# Altium footprint library Коммут элементы-mm.PcbLib: 50 footprints (part 2 of 4)
Each footprint in its own frame and in the unit in brackets; x right, y up, seen from the top. Pads: shape width x height; smd on the part's side, far side on the other; paste and mask are expansions set on the pad; w line width, h text height; cw(c..) or ccw(c..) is an arc to the next point about the centre after c.
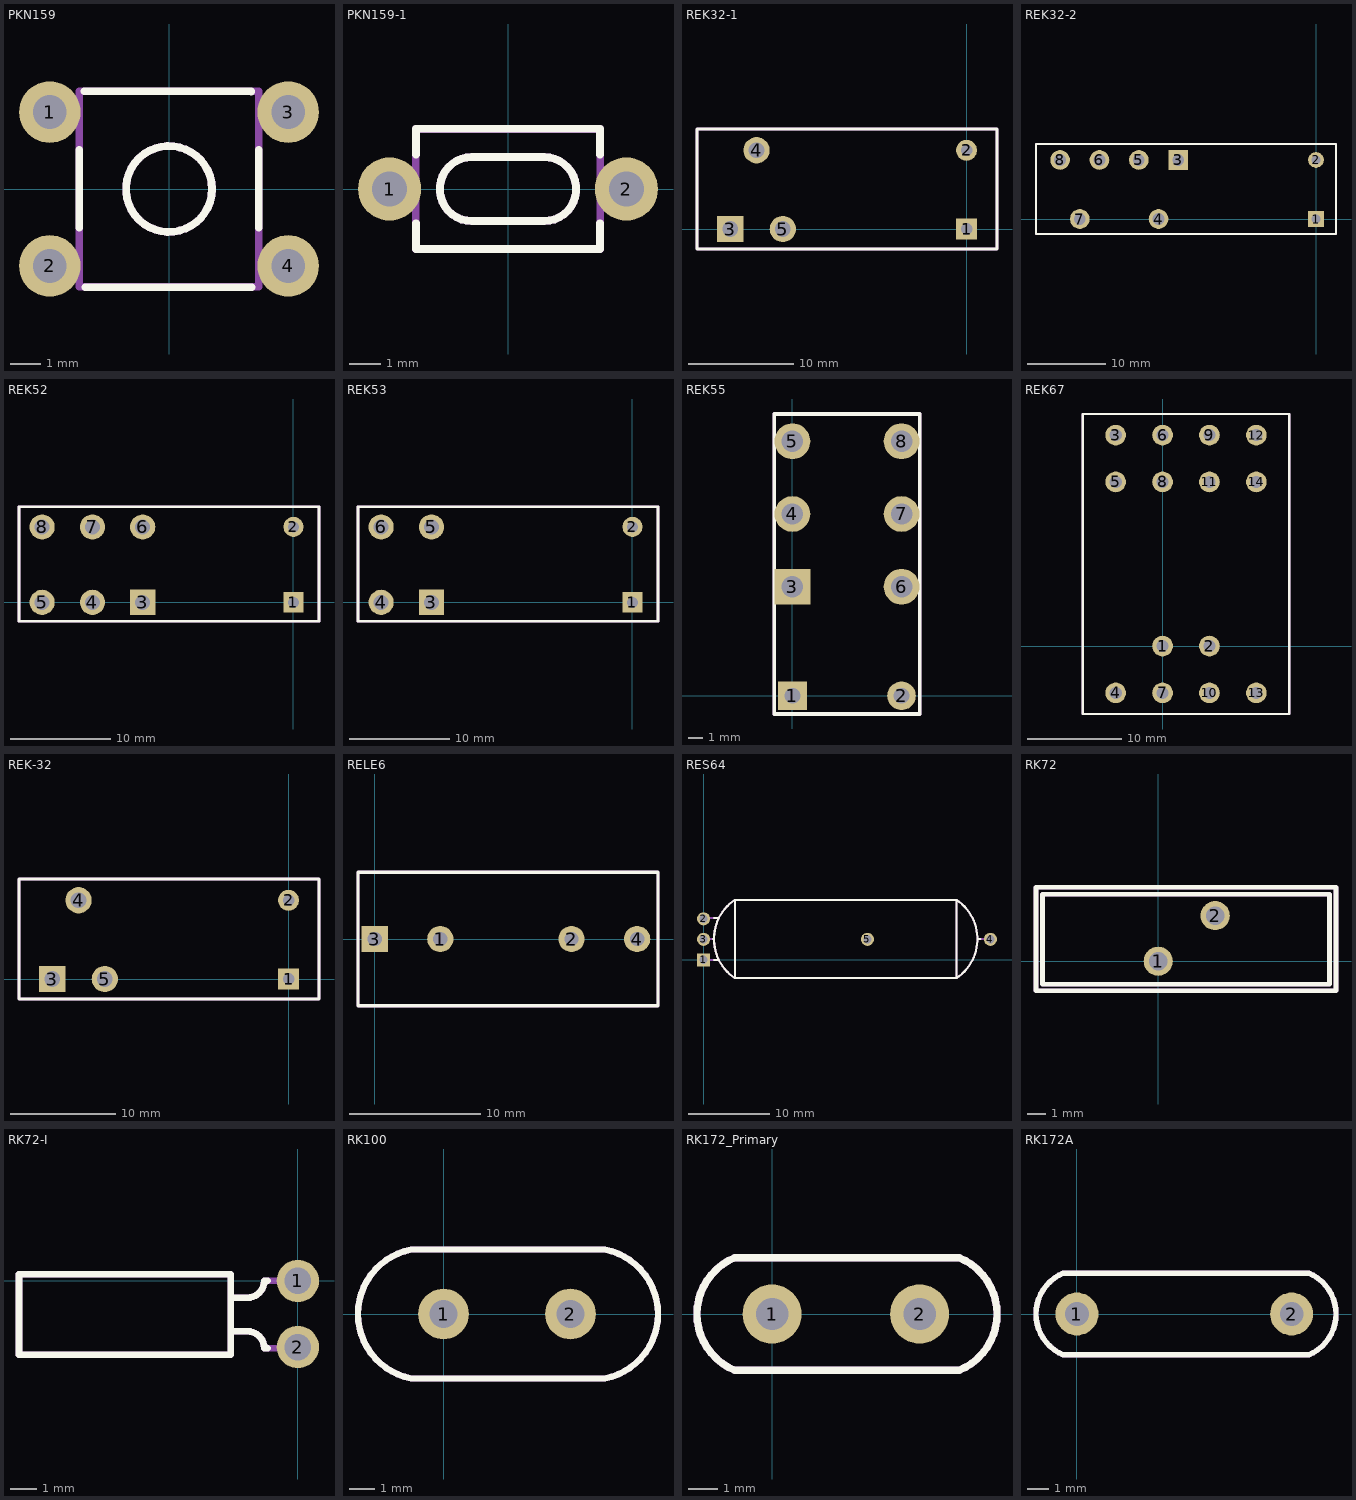
[diagram p1: the footprints below, top view; thin cyan lines are the x and y axes]

## PKN159 [mm]
pads (4):
  round 2 hole 1.1: 1(-3.875,2.5) 2(-3.875,-2.5) 3(3.875,2.5) 4(3.875,-2.5)
Top Overlay:
  circle w0.25: c0,0 r1.397
  lines w0.25: -2.92,-1.25 -2.92,1.276 ; -2.746,3.178 2.67,3.178 2.67,3.164 ; -2.724,-3.196 2.692,-3.196 ; 2.917,-1.25 2.917,1.276
Mechanical 1:
  circle w0.25: c0,0 r1.397
  lines w0.25: -2.921,-3.175 2.921,-3.175 2.921,3.175 -2.921,3.175 -2.921,-3.175

## PKN159-1 [mm]
pads (2):
  round 2 hole 1.1: 1(-3.75,0) 2(3.75,0)
Top Overlay:
  lines w0.25: -2.916,-1.084 -2.916,-1.902 2.27,-1.902 2.916,-1.902 2.916,-1.084 ; -2.916,1.09 -2.916,1.908 -2.27,1.908 2.916,1.908 2.916,1.09 ; -1.143,-1.016 cw(c-1.143,0) -1.143,1.016 1.143,1.016 cw(c1.143,0) 1.143,-1.016 -1.143,-1.016
Mechanical 1:
  lines w0.25: -2.921,-1.905 2.921,-1.905 2.921,1.905 -2.921,1.905 -2.921,-1.905 ; -1.143,-1.016 cw(c-1.143,0) -1.143,1.016 1.143,1.016 cw(c1.143,0) 1.143,-1.016 -1.143,-1.016

## REK32-1 [mm]
pads (5):
  rect 2x2 hole 1.1: 1(0,0)
  round 2 hole 1.1: 2(0,7.5)
  rect 2.5x2.5 hole 1.5: 3(-22.5,0)
  round 2.5 hole 1.5: 4(-20,7.5) 5(-17.5,0)
Top Overlay:
  lines w0.25: -25.675,-1.905 2.9,-1.905 2.9,9.525 -25.675,9.525 -25.675,-1.905
Mechanical 1:
  lines w0.25: -25.675,-1.905 2.9,-1.905 2.9,9.525 -25.675,9.525 -25.675,-1.905

## REK32-2 [mm]
pads (8):
  rect 2x2 hole 1.1: 1(0,0)
  round 2 hole 1.1: 2(0,7.5)
  rect 2.5x2.5 hole 1.5: 3(-17.5,7.5)
  round 2.5 hole 1.5: 4(-20,0) 5(-22.5,7.5) 6(-27.5,7.5) 7(-30,0) 8(-32.5,7.5)
Top Overlay:
  lines w0.25: -35.56,-1.905 2.54,-1.905 2.54,9.525 -35.56,9.525 -35.56,-1.905
Mechanical 1:
  lines w0.25: -35.56,-1.905 2.54,-1.905 2.54,9.525 -35.56,9.525 -35.56,-1.905
  text "1" at -23.591,3.115 h3.17

## REK52 [mm]
pads (8):
  rect 2x2 hole 1.1: 1(0,0)
  round 2 hole 1.1: 2(0,7.5)
  rect 2.5x2.5 hole 1.5: 3(-15,0)
  round 2.5 hole 1.5: 4(-20,0) 5(-25,0) 6(-15,7.5) 7(-20,7.5) 8(-25,7.5)
Top Overlay:
  lines w0.25: -27.305,-1.905 2.54,-1.905 2.54,9.525 -27.305,9.525 -27.305,-1.905
Mechanical 1:
  lines w0.25: -27.305,-1.905 2.54,-1.905 2.54,9.525 -27.305,9.525 -27.305,-1.905
  text "1" at -13.791,-1.885 h3.17

## REK53 [mm]
pads (6):
  rect 2x2 hole 1.1: 1(0,0)
  round 2 hole 1.1: 2(0,7.5)
  rect 2.5x2.5 hole 1.5: 3(-20,0)
  round 2.5 hole 1.5: 4(-25,0) 5(-20,7.5) 6(-25,7.5)
Top Overlay:
  lines w0.25: -27.305,-1.905 2.54,-1.905 2.54,9.525 -27.305,9.525 -27.305,-1.905
Mechanical 1:
  lines w0.25: -27.305,-1.905 2.54,-1.905 2.54,9.525 -27.305,9.525 -27.305,-1.905
  text "1" at -18.871,-1.885 h3.17

## REK55 [mm]
pads (8):
  rect 2x2 hole 1.1: 1(0,0)
  round 2 hole 1.1: 2(7.62,0)
  rect 2.5x2.5 hole 1.5: 3(0,7.62)
  round 2.5 hole 1.5: 4(0,12.7) 5(0,17.78) 6(7.62,7.62) 7(7.62,12.7) 8(7.62,17.78)
Top Overlay:
  lines w0.25: -1.27,-1.27 8.89,-1.27 8.89,19.685 -1.27,19.685 -1.27,-1.27
Mechanical 1:
  lines w0.25: -1.27,-1.27 8.89,-1.27 8.89,19.685 -1.27,19.685 -1.27,-1.27
  text "1" at -1.885,6.171 h3.17

## REK67 [mm]
pads (14):
  round 2.2 hole 1.3: 1(0,0) 2(5,0) 3(-5,22.5) 4(-5,-5) 5(-5,17.5) 6(0,22.5) 7(0,-5) 8(0,17.5) 9(5,22.5) 10(5,-5) 11(5,17.5) 12(10,22.5) 13(10,-5) 14(10,17.5)
Top Overlay:
  lines w0.25: -8.5,-7.25 13.5,-7.25 13.5,24.75 -8.5,24.75 -8.5,-7.25
Mechanical 1:
  lines w0.25: -8.5,-7.25 13.5,-7.25 13.5,24.75 -8.5,24.75 -8.5,-7.25

## REK-32 [mm]
pads (5):
  rect 2x2 hole 1.1: 1(0,0)
  round 2 hole 1.1: 2(0,7.5)
  rect 2.5x2.5 hole 1.5: 3(-22.5,0)
  round 2.5 hole 1.5: 4(-20,7.5) 5(-17.5,0)
Top Overlay:
  lines w0.25: -25.675,-1.905 2.9,-1.905 2.9,9.525 -25.675,9.525 -25.675,-1.905
Mechanical 1:
  lines w0.25: -25.675,-1.905 2.9,-1.905 2.9,9.525 -25.675,9.525 -25.675,-1.905

## RELE6 [mm]
pads (4):
  round 2 hole 1.1: 1(5,0) 2(15,0) 4(20,0)
  rect 2x2 hole 1.1: 3(0,0)
Top Overlay:
  lines w0.25: -1.27,-5.08 21.59,-5.08 21.59,5.08 -1.27,5.08 -1.27,-5.08
Mechanical 1:
  lines w0.25: -1.27,-5.08 21.59,-5.08 21.59,5.08 -1.27,5.08 -1.27,-5.08

## RES64 [mm]
pads (5):
  rect 1.6x1.6 hole 1: 1(0,0)
  round 1.6 hole 1: 2(0,5) 3(0,2.5) 4(35,2.5) 5(20,2.5)
Top Overlay:
  lines w0.25: 1.143,2.54 1.27,2.54 ; 1.27,0 1.88,0 ; 1.27,5.08 1.88,5.08 ; 3.813,-2.237 cw(c7.036,2.54) 3.813,7.317 ; 30.84,-2.23 3.81,-2.235 ; 30.87,7.31 3.81,7.315 ; 30.875,-2.235 30.875,7.315 ; 30.88,-2.232 ccw(c27.649,2.54) 30.88,7.312 ; 33.415,2.54 33.782,2.54 ; 3.81,-2.235 3.81,7.315 ; 3.81,-2.235 3.81,7.315
Mechanical 1:
  lines w0.25: 0,0 1.88,0 ; 0,2.54 1.27,2.54 ; 0,5.08 1.88,5.08 ; 3.813,-2.237 cw(c7.036,2.54) 3.813,7.317 ; 30.84,-2.23 3.81,-2.235 ; 30.87,7.31 3.81,7.315 ; 30.875,-2.235 30.875,7.315 ; 30.88,-2.232 ccw(c27.649,2.54) 30.88,7.312 ; 33.415,2.54 34.685,2.54 ; 3.81,-2.235 3.81,7.315 ; 3.81,-2.235 3.81,7.315

## RK72 [mm]
pads (2):
  round 1.6 hole 1: 1(0,0) 2(3.125,2.5)
Top Overlay:
  lines w0.25: -6.706,-1.626 9.754,-1.626 9.754,4.064 -6.706,4.064 -6.706,-1.626 ; -6.35,-1.27 -1.27,-1.27 9.398,-1.27 9.398,3.683 -6.35,3.683 -6.35,-1.27
Mechanical 1:
  lines w0.25: -6.706,-1.626 9.754,-1.626 9.754,4.064 -6.706,4.064 -6.706,-1.626 ; -6.35,-1.27 -1.27,-1.27 9.398,-1.27 9.398,3.683 -6.35,3.683 -6.35,-1.27

## RK72-I [mm]
pads (2):
  round 1.6 hole 1: 1(0,0) 2(0,-2.5)
Top Overlay:
  lines w0.25: -2.54,-1.905 -1.905,-1.905 cw(c-1.905,-2.54) -1.27,-2.54 -1.143,-2.54 ; -2.54,-0.635 -1.905,-0.635 ccw(c-1.905,0) -1.27,0 -1.143,0 ; -10.541,-2.794 -2.54,-2.794 -2.54,0.254 -10.541,0.254 -10.541,-2.794
Mechanical 1:
  lines w0.25: -2.54,-1.905 -1.905,-1.905 cw(c-1.905,-2.54) -1.27,-2.54 -0.005,-2.545 ; -2.54,-0.635 -1.905,-0.635 ccw(c-1.905,0) -1.27,0 0,0 ; -10.541,-2.794 -2.54,-2.794 -2.54,0.254 -10.541,0.254 -10.541,-2.794

## RK100 [mm]
pads (2):
  round 2 hole 1.1: 1(0,0) 2(5,0)
Top Overlay:
  lines w0.25: -1.27,-2.54 6.35,-2.54 ; -1.27,2.54 6.35,2.54 ; -1.267,-2.54 cw(c-0.787,0) -1.267,2.54 ; 6.352,-2.54 ccw(c5.867,0) 6.352,2.54
Mechanical 1:
  lines w0.25: -1.27,-2.54 6.35,-2.54 ; -1.27,2.54 6.35,2.54 ; -1.267,-2.54 cw(c-0.787,0) -1.267,2.54 ; 6.352,-2.54 ccw(c5.867,0) 6.352,2.54

## RK172_Primary [mm]
pads (2):
  round 2 hole 1.1: 1(0,0) 2(5,0)
Top Overlay:
  lines w0.25: -1.27,-1.905 6.35,-1.905 ; -1.27,1.905 6.35,1.905 ; -1.268,-1.906 cw(c-0.483,0) -1.268,1.906 ; 6.351,-1.904 ccw(c5.563,0) 6.351,1.904
Mechanical 1:
  lines w0.25: -1.27,-1.905 6.35,-1.905 ; -1.27,1.905 6.35,1.905 ; -1.268,-1.906 cw(c-0.483,0) -1.268,1.906 ; 6.351,-1.904 ccw(c5.563,0) 6.351,1.904

## RK172A [mm]
pads (2):
  round 2 hole 1.1: 1(0,0) 2(10,0)
Top Overlay:
  lines w0.25: -0.635,-1.905 10.795,-1.905 ; -0.635,1.905 10.795,1.905 ; -0.633,-1.906 cw(c0.152,0) -0.633,1.906 ; 10.796,-1.904 ccw(c10.008,0) 10.796,1.904
Mechanical 1:
  lines w0.25: -0.635,-1.905 10.795,-1.905 ; -0.635,1.905 10.795,1.905 ; -0.633,-1.906 cw(c0.152,0) -0.633,1.906 ; 10.796,-1.904 ccw(c10.008,0) 10.796,1.904